# EAGLE library part PINHD-1X11 (library pinhead)
PIN HEADER
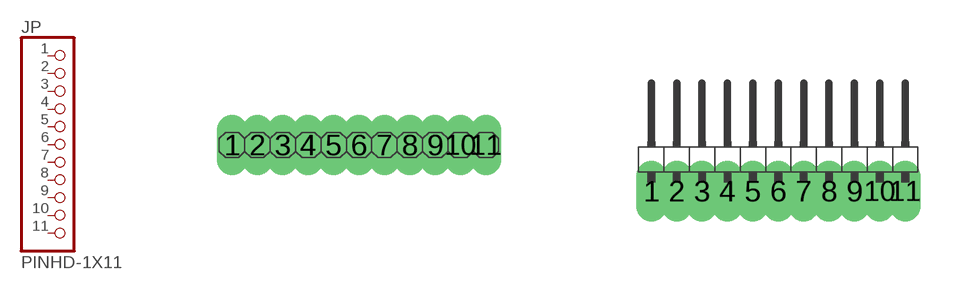
[diagram p5: symbol with the pads of 1X11; footprints 1X11, 1X11/90]

Designator prefix JP

## PINHD-1X11  [1X11]
1  1  pas
2  2  pas
3  3  pas
4  4  pas
5  5  pas
6  6  pas
7  7  pas
8  8  pas
9  9  pas
10  10  pas
11  11  pas

## PINHD-1X11/90  [1X11/90]
Pads as for 1X11

## Footprint 1X11 (pad centres in mm)
PIN HEADER
drill 0.254 long: 1 -3.175,0; 2 -2.54,0; 3 -1.905,0; 4 -1.27,0; 5 -0.635,0; 6 0,0; 7 0.635,0; 8 1.27,0; 9 1.905,0; 10 2.54,0; 11 3.175,0

## Footprint 1X11/90 (pad centres in mm)
PIN HEADER
drill 0.254 long: 1 -3.175,-0.953; 2 -2.54,-0.953; 3 -1.905,-0.953; 4 -1.27,-0.953; 5 -0.635,-0.953; 6 0,-0.953; 7 0.635,-0.953; 8 1.27,-0.953; 9 1.905,-0.953; 10 2.54,-0.953; 11 3.175,-0.953